# Altium footprint library ICs.PcbLib: 132 footprints (part 1 of 9)
Each footprint in its own frame and in the unit in brackets; x right, y up, seen from the top. Pads: shape width x height; smd on the part's side, far side on the other; paste and mask are expansions set on the pad; w line width, h text height; cw(c..) or ccw(c..) is an arc to the next point about the centre after c.
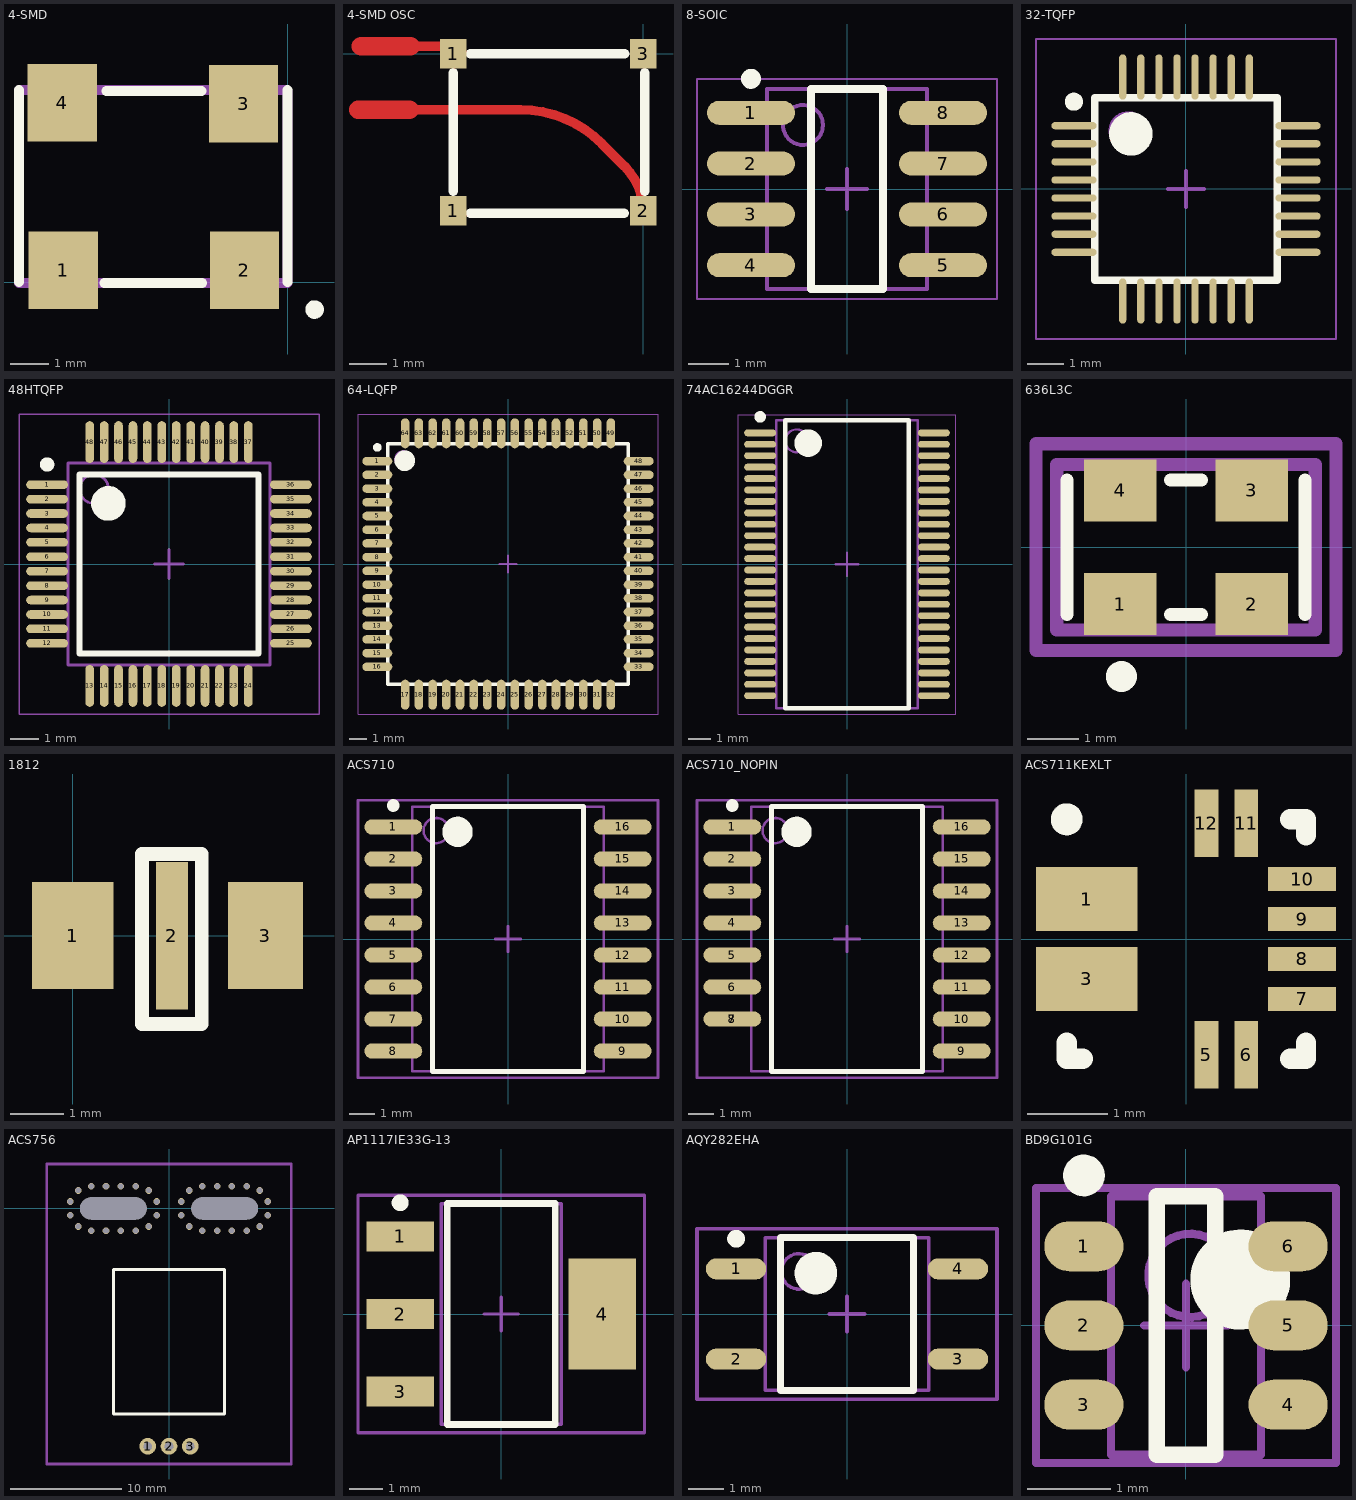
[diagram p0: the footprints below, top view; thin cyan lines are the x and y axes]

## 4-SMD [mm] "For 8MHz Oscillator"
height 1.8
pads (4):
  rect 1.8x2 smd: 1(-5.817,0.305) 2(-1.118,0.305) 3(-1.143,4.623) 4(-5.842,4.648)
Top Overlay:
  circle w0.254: c0.699,-0.711 r0.114
  lines w0.254: -6.96,0 -6.96,4.978 ; -4.75,-0.025 -2.21,-0.025 ; -4.699,4.953 -2.235,4.953 ; 0,0 0,4.978
Mechanical 15:
  lines w0.254: 0,-0.025 -6.96,-0.025 -6.96,4.978 -0.025,4.978 0,4.953 0,0

## 4-SMD OSC [mm] "For 20MHz OSC"
height 1.8
pads (4):
  rect 0.71x0.79 smd: 1(-5.08,-4.2) 1(-5.08,0) 2(0,-4.2) 3(0,0)
Top Layer:
  lines w0.254: -7.62,-1.499 -3.277,-1.499 cw(c-3.277,-4.565) -1.109,-2.397 -0.491,-3.014 cw(c-1.677,-4.2) 0,-4.2 ; -7.544,0.203 -5.08,0.203
  lines w0.5: -7.62,-1.499 -6.248,-1.499 ; -7.544,0.203 -6.223,0.203
Top Overlay:
  lines w0.254: -5.08,-3.683 -5.08,-0.508 ; -4.623,-4.267 -0.508,-4.267 ; -4.623,0 -0.483,0 ; 0.051,-3.683 0.051,-0.508
3D body: height 1.8, standoff 0, extent -5.08,-4.216 0,0.025

## 8-SOIC [mm] "Used for LMH6612"
height 1.75
pads (8):
  oval 2.2x0.6 smd: 1(-2.4,1.905) 2(-2.4,0.635) 3(-2.4,-0.635) 4(-2.4,-1.905) 5(2.4,-1.905) 6(2.4,-0.635) 7(2.4,0.635) 8(2.4,1.905)
Top Overlay:
  circle w0.25: c-2.4,2.755 r0.125
  lines w0.2: -0.9,-2.5 -0.9,2.5 0.9,2.5 0.9,-2.5 -0.9,-2.5
Mechanical 13:
  circle w0.1: c-1.1,1.6 r0.5
  lines w0.1: -2,-2.5 -2,2.5 2,2.5 2,-2.5 -2,-2.5
Mechanical 15:
  lines w0.05: -3.75,-2.75 -3.75,2.75 3.75,2.75 3.75,-2.75 -3.75,-2.75
  lines w0.1: -0.5,0 0.5,0 ; 0,-0.5 0,0.5
3D body: height 1.75, standoff 0.25, extent -2,-2.5 2,2.5

## 32-TQFP [mm]
height 0.15
pads (32):
  oval 1.25x0.2 smd: 1(-3.1,1.75) 2(-3.1,1.25) 3(-3.1,0.75) 4(-3.1,0.25) 5(-3.1,-0.25) 6(-3.1,-0.75) 7(-3.1,-1.25) 8(-3.1,-1.75) 17(3.1,-1.75) 18(3.1,-1.25) 19(3.1,-0.75) 20(3.1,-0.25) 21(3.1,0.25) 22(3.1,0.75) 23(3.1,1.25) 24(3.1,1.75)
  oval 0.2x1.25 smd: 9(-1.75,-3.1) 10(-1.25,-3.1) 11(-0.75,-3.1) 12(-0.25,-3.1) 13(0.25,-3.1) 14(0.75,-3.1) 15(1.25,-3.1) 16(1.75,-3.1) 25(1.75,3.1) 26(1.25,3.1) 27(0.75,3.1) 28(0.25,3.1) 29(-0.25,3.1) 30(-0.75,3.1) 31(-1.25,3.1) 32(-1.75,3.1)
Top Overlay:
  circle w0.6: c-1.525,1.525 r0.3
  circle w0.25: c-3.1,2.415 r0.125
  lines w0.2: -2.525,-2.525 2.525,-2.525 2.525,2.525 -2.525,2.525 -2.525,-2.525
Mechanical 13:
  circle w0.1: c-1.6,1.6 r0.5
  lines w0.1: -2.5,-2.5 2.5,-2.5 2.5,2.5 -2.5,2.5 -2.5,-2.5
Mechanical 15:
  lines w0.05: -4.15,-4.15 4.15,-4.15 4.15,4.15 -4.15,4.15 -4.15,-4.15
  lines w0.1: -0.5,0 0.5,0 ; 0,-0.5 0,0.5
3D body: height 0.15, standoff 0.05, extent -2.5,-2.5 2.5,2.5

## 48HTQFP [mm] "TSQFP, S-PQFP-G48, 48-Leads, Body 7.00x7.00mm, Pitch 0.50mm, IPC Medium Density"
height 1.2
pads (48):
  oval 1.45x0.3 smd: 1(-4.225,2.75) 2(-4.225,2.25) 3(-4.225,1.75) 4(-4.225,1.25) 5(-4.225,0.75) 6(-4.225,0.25) 7(-4.225,-0.25) 8(-4.225,-0.75) 9(-4.225,-1.25) 10(-4.225,-1.75) 11(-4.225,-2.25) 12(-4.225,-2.75) 25(4.225,-2.75) 26(4.225,-2.25) 27(4.225,-1.75) 28(4.225,-1.25) 29(4.225,-0.75) 30(4.225,-0.25) 31(4.225,0.25) 32(4.225,0.75) 33(4.225,1.25) 34(4.225,1.75) 35(4.225,2.25) 36(4.225,2.75)
  oval 0.3x1.45 smd: 13(-2.75,-4.225) 14(-2.25,-4.225) 15(-1.75,-4.225) 16(-1.25,-4.225) 17(-0.75,-4.225) 18(-0.25,-4.225) 19(0.25,-4.225) 20(0.75,-4.225) 21(1.25,-4.225) 22(1.75,-4.225) 23(2.25,-4.225) 24(2.75,-4.225) 37(2.75,4.225) 38(2.25,4.225) 39(1.75,4.225) 40(1.25,4.225) 41(0.75,4.225) 42(0.25,4.225) 43(-0.25,4.225) 44(-0.75,4.225) 45(-1.25,4.225) 46(-1.75,4.225) 47(-2.25,4.225) 48(-2.75,4.225)
Top Overlay:
  circle w0.6: c-2.1,2.1 r0.3
  circle w0.25: c-4.225,3.45 r0.125
  lines w0.2: -3.1,-3.1 3.1,-3.1 3.1,3.1 -3.1,3.1 -3.1,-3.1
Mechanical 13:
  circle w0.1: c-2.6,2.6 r0.5
  lines w0.1: -3.5,-3.5 3.5,-3.5 3.5,3.5 -3.5,3.5 -3.5,-3.5
Mechanical 15:
  lines w0.05: -5.2,-5.2 5.2,-5.2 5.2,5.2 -5.2,5.2 -5.2,-5.2
  lines w0.1: -0.5,0 0.5,0 ; 0,-0.5 0,0.5
3D body: height 1.2, standoff 0.25, extent -3.5,-3.5 3.5,3.5

## 64-LQFP [mm] "For IDT 64 pin FIFO"
height 0.15
pads (64):
  oval 1.75x0.5 smd: 1(-7.625,6) 2(-7.625,5.2) 3(-7.625,4.4) 4(-7.625,3.6) 5(-7.625,2.8) 6(-7.625,2) 7(-7.625,1.2) 8(-7.625,0.4) 9(-7.625,-0.4) 10(-7.625,-1.2) 11(-7.625,-2) 12(-7.625,-2.8) 13(-7.625,-3.6) 14(-7.625,-4.4) 15(-7.625,-5.2) 16(-7.625,-6) 33(7.625,-6) 34(7.625,-5.2) 35(7.625,-4.4) 36(7.625,-3.6) 37(7.625,-2.8) 38(7.625,-2) 39(7.625,-1.2) 40(7.625,-0.4) 41(7.625,0.4) 42(7.625,1.2) 43(7.625,2) 44(7.625,2.8) 45(7.625,3.6) 46(7.625,4.4) 47(7.625,5.2) 48(7.625,6)
  oval 0.5x1.75 smd: 17(-6,-7.625) 18(-5.2,-7.625) 19(-4.4,-7.625) 20(-3.6,-7.625) 21(-2.8,-7.625) 22(-2,-7.625) 23(-1.2,-7.625) 24(-0.4,-7.625) 25(0.4,-7.625) 26(1.2,-7.625) 27(2,-7.625) 28(2.8,-7.625) 29(3.6,-7.625) 30(4.4,-7.625) 31(5.2,-7.625) 32(6,-7.625) 49(6,7.625) 50(5.2,7.625) 51(4.4,7.625) 52(3.6,7.625) 53(2.8,7.625) 54(2,7.625) 55(1.2,7.625) 56(0.4,7.625) 57(-0.4,7.625) 58(-1.2,7.625) 59(-2,7.625) 60(-2.8,7.625) 61(-3.6,7.625) 62(-4.4,7.625) 63(-5.2,7.625) 64(-6,7.625)
Top Overlay:
  circle w0.6: c-6.025,6.025 r0.3
  circle w0.25: c-7.625,6.8 r0.125
  lines w0.2: -7.025,-7.025 7.025,-7.025 7.025,7.025 -7.025,7.025 -7.025,-7.025
Mechanical 13:
  circle w0.1: c-6.1,6.1 r0.5
  lines w0.1: -7,-7 7,-7 7,7 -7,7 -7,-7
Mechanical 15:
  lines w0.05: -8.75,-8.75 8.75,-8.75 8.75,8.75 -8.75,8.75 -8.75,-8.75
  lines w0.1: -0.5,0 0.5,0 ; 0,-0.5 0,0.5
3D body: height 0.15, standoff 0.05, extent -7,-7 7,7

## 74AC16244DGGR [mm] "TSSOP, 48-Leads, Body 12.50x6.10mm, Pitch 0.50mm, IPC Medium Density"
height 1.2
pads (48):
  oval 1.4x0.3 smd: 1(-3.8,5.75) 2(-3.8,5.25) 3(-3.8,4.75) 5(-3.8,3.75) 6(-3.8,3.25) 8(-3.8,2.25) 9(-3.8,1.75) 11(-3.8,0.75) 12(-3.8,0.25) 13(-3.8,-0.25) 14(-3.8,-0.75) 16(-3.8,-1.75) 17(-3.8,-2.25) 19(-3.8,-3.25) 20(-3.8,-3.75) 22(-3.8,-4.75) 23(-3.8,-5.25) 24(-3.8,-5.75) 25(3.8,-5.75) 26(3.8,-5.25) 27(3.8,-4.75) 29(3.8,-3.75) 30(3.8,-3.25) 32(3.8,-2.25) 33(3.8,-1.75) 35(3.8,-0.75) 36(3.8,-0.25) 37(3.8,0.25) 38(3.8,0.75) 40(3.8,1.75) 41(3.8,2.25) 43(3.8,3.25) 44(3.8,3.75) 46(3.8,4.75) 47(3.8,5.25) 48(3.8,5.75) GND(-3.8,-4.25) GND(-3.8,-1.25) GND(-3.8,1.25) GND(-3.8,4.25) GND(3.8,-4.25) GND(3.8,-1.25) GND(3.8,1.25) GND(3.8,4.25) VCC(-3.8,-2.75) VCC(-3.8,2.75) VCC(3.8,-2.75) VCC(3.8,2.75)
Top Overlay:
  circle w0.25: c-3.8,6.45 r0.125
  circle w0.6: c-1.7,5.3 r0.3
  lines w0.2: -2.7,-6.3 -2.7,6.3 2.7,6.3 2.7,-6.3 -2.7,-6.3
Mechanical 13:
  circle w0.1: c-2.2,5.4 r0.5
  lines w0.1: -3.1,-6.3 -3.1,6.3 3.1,6.3 3.1,-6.3 -3.1,-6.3
Mechanical 15:
  lines w0.05: -4.75,-6.55 -4.75,6.55 4.75,6.55 4.75,-6.55 -4.75,-6.55
  lines w0.1: -0.5,0 0.5,0 ; 0,-0.5 0,0.5
3D body: height 1.2, standoff 0.05, extent -3.1,-6.3 3.1,6.3

## 636L3C [mm]
height 1.4
pads (4):
  rect 1.4x1.2 smd: 1(-1.27,-1.1) 2(1.27,-1.1) 3(1.27,1.1) 4(-1.27,1.1)
Top Overlay:
  circle w0.3: c-1.25,-2.5 r0.15
  lines w0.254: -2.3,-1.3 -2.3,1.3 ; -0.3,-1.3 0.3,-1.3 ; -0.3,1.3 0.3,1.3 ; 2.3,-1.3 2.3,1.3
Mechanical 13:
  lines w0.254: -2.5,-1.6 -2.5,1.6 2.5,1.6 2.5,-1.6 -2.5,-1.6
Mechanical 15:
  lines w0.254: -2.9,-2 2.9,-2 2.9,2 -2.9,2 -2.9,-2
3D body: height 2, standoff 0, extent -2.5,-1.6 2.5,1.6

## 1812 [mm] "For EMI Filter"
height 2.9
pads (3):
  rect 1.524x2 smd: 1(0,0)
  rect 0.6x2.75 smd: 2(1.854,0)
  rect 1.4x2 smd: 3(3.6,0)
Top Overlay:
  lines w0.254: 1.295,-1.651 2.413,-1.651 2.413,1.524 1.295,1.524 1.295,-1.651
3D body: height 1.8, standoff 0, extent -0.635,-0.991 4.216,0.991

## ACS710 [mm] "SOIC, 16-Leads, Body 10.5x7.6mm (max), Pitch 1.27mm, IPC Medium Density"
height 2.65
pads (16):
  oval 2.3x0.6 smd: 1(-4.55,4.445) 2(-4.55,3.175) 3(-4.55,1.905) 4(-4.55,0.635) 5(-4.55,-0.635) 6(-4.55,-1.905) 7(-4.55,-3.175) 8(-4.55,-4.445) 9(4.55,-4.445) 10(4.55,-3.175) 11(4.55,-1.905) 12(4.55,-0.635) 13(4.55,0.635) 14(4.55,1.905) 15(4.55,3.175) 16(4.55,4.445)
Top Overlay:
  circle w0.6: c-2,4.25 r0.3
  circle w0.25: c-4.55,5.295 r0.125
  lines w0.2: -3,-5.25 3,-5.25 3,5.25 -3,5.25 -3,-5.25
Mechanical 13:
  circle w0.1: c-2.85,4.3 r0.5
  lines w0.1: -3.8,-5.25 3.8,-5.25 3.8,5.25 -3.8,5.25 -3.8,-5.25
Mechanical 15:
  lines w0.1: -0.5,0 0.5,0 ; 0,-0.5 0,0.5 ; -5.95,-5.5 5.95,-5.5 5.95,5.5 -5.95,5.5 -5.95,-5.5
3D body: height 2.65, standoff 0.1, extent -3.8,-5.25 3.8,5.25

## ACS710_NOPIN [mm] "Hacked footprint to make battery board look nice."
pads (16):
  oval 2.3x0.6 smd: 1(-4.55,4.445) 2(-4.55,3.175) 3(-4.55,1.905) 4(-4.55,0.635) 5(-4.55,-0.635) 6(-4.55,-1.905) 7(-4.55,-3.175) 8(-4.55,-3.175) 9(4.55,-4.445) 10(4.55,-3.175) 11(4.55,-1.905) 12(4.55,-0.635) 13(4.55,0.635) 14(4.55,1.905) 15(4.55,3.175) 16(4.55,4.445)
Top Overlay:
  circle w0.25: c-4.55,5.295 r0.125
  circle w0.6: c-2,4.25 r0.3
  lines w0.2: -3,-5.25 -3,5.25 3,5.25 3,-5.25 -3,-5.25
Mechanical 13:
  circle w0.1: c-2.85,4.3 r0.5
  lines w0.1: -3.8,-5.25 -3.8,5.25 3.8,5.25 3.8,-5.25 -3.8,-5.25
Mechanical 15:
  lines w0.1: -0.5,0 0.5,0 ; 0,-0.5 0,0.5 ; -5.95,-5.5 -5.95,5.5 5.95,5.5 5.95,-5.5 -5.95,-5.5
3D body: height 2.65, standoff 0.1, extent -3.8,-5.25 3.8,5.25

## ACS711KEXLT [mm]
height 0.75
pads (10):
  rect 1.27x0.8 smd: 1(-1.25,0.5) 3(-1.25,-0.5)
  rect 0.3x0.85 smd: 5(0.25,-1.45) 6(0.75,-1.45) 11(0.75,1.45) 12(0.25,1.45)
  rect 0.85x0.3 smd: 7(1.45,-0.75) 8(1.45,-0.25) 9(1.45,0.25) 10(1.45,0.75)
Top Overlay:
  circle w0.2: c-1.5,1.5 r0.1
  lines w0.254: -1.5,-1.3 -1.5,-1.5 -1.3,-1.5 ; 1.3,-1.5 1.5,-1.5 1.5,-1.3 ; 1.3,1.5 1.5,1.5 1.5,1.3
3D body: height 0.75, standoff 0.08, extent -1.5,-1.5 1.5,1.5

## ACS756 [mm] "Hall Effect-Based Linear Current Sensor"
height 7
pads (5):
  round 1.5 hole 0.8: 1(-1.91,-21.4) 2(0,-21.4) 3(1.91,-21.4)
  round 0 hole 2 slot 6 at 0 deg paste+0 mask+0: 4(5,0) 5(-5,0)
via 3,2 diameter 0.6 hole 0.5
via 7,2 diameter 0.6 hole 0.5
via 4.33,2 diameter 0.6 hole 0.5
via 5.66,2 diameter 0.6 hole 0.5
via 1.098,-0.618 diameter 0.6 hole 0.5
via 1.098,0.618 diameter 0.6 hole 0.5
via 1.824,1.618 diameter 0.6 hole 0.5
via 3,-2 diameter 0.6 hole 0.5
via 1.824,-1.618 diameter 0.6 hole 0.5
via 8.176,1.618 diameter 0.6 hole 0.5
via 8.902,0.618 diameter 0.6 hole 0.5
via 8.902,-0.618 diameter 0.6 hole 0.5
via 8.176,-1.618 diameter 0.6 hole 0.5
via 7,-2 diameter 0.6 hole 0.5
via 4.33,-2 diameter 0.6 hole 0.5
via 5.66,-2 diameter 0.6 hole 0.5
via -4.34,-2 diameter 0.6 hole 0.5
via -5.67,-2 diameter 0.6 hole 0.5
via -3,-2 diameter 0.6 hole 0.5
via -1.824,-1.618 diameter 0.6 hole 0.5
via -1.098,-0.618 diameter 0.6 hole 0.5
via -1.098,0.618 diameter 0.6 hole 0.5
via -1.824,1.618 diameter 0.6 hole 0.5
via -8.176,-1.618 diameter 0.6 hole 0.5
via -7,-2 diameter 0.6 hole 0.5
via -8.176,1.618 diameter 0.6 hole 0.5
via -8.902,0.618 diameter 0.6 hole 0.5
via -8.902,-0.618 diameter 0.6 hole 0.5
via -4.34,2 diameter 0.6 hole 0.5
via -5.67,2 diameter 0.6 hole 0.5
via -3,2 diameter 0.6 hole 0.5
via -7,2 diameter 0.6 hole 0.5
Top Overlay:
  lines w0.254: -5,-18.5 -5,-5.5 5,-5.5 5,-18.5 -5,-18.5
Top Solder:
  region: -7,-3.227 -7.254,-3.227 -7.756,-3.148 -8.239,-2.991 -8.692,-2.76 -9.102,-2.462 -9.462,-2.102 -9.76,-1.692 -9.991,-1.239 -10.148,-0.756 -10.227,-0.254 -10.227,0.254 -10.148,0.756 -9.991,1.239 -9.76,1.692 -9.462,2.102 -9.102,2.462 -8.692,2.76 -8.239,2.991 -7.756,3.148 -7.254,3.227 -7,3.227 6.9,3.227 6.906,3.227 6.919,3.226 6.932,3.224 6.944,3.22 6.95,3.217 6.956,3.22 6.968,3.224 6.981,3.226 6.994,3.227 7,3.227 7.212,3.227 7.631,3.172 8.04,3.063 8.43,2.901 8.797,2.689 9.133,2.432 9.432,2.133 9.689,1.797 9.901,1.43 10.063,1.04 10.172,0.631 10.227,0.212 10.227,0 10.227,-0.212 10.172,-0.631 10.063,-1.04 9.901,-1.43 9.689,-1.797 9.432,-2.133 9.133,-2.432 8.797,-2.689 8.43,-2.901 8.04,-3.063 7.631,-3.172 7.212,-3.227 7,-3.227
Bottom Solder:
  region: -7,-3.227 -7.254,-3.227 -7.756,-3.148 -8.239,-2.991 -8.692,-2.76 -9.102,-2.462 -9.462,-2.102 -9.76,-1.692 -9.991,-1.239 -10.148,-0.756 -10.227,-0.254 -10.227,0.254 -10.148,0.756 -9.991,1.239 -9.76,1.692 -9.462,2.102 -9.102,2.462 -8.692,2.76 -8.239,2.991 -7.756,3.148 -7.254,3.227 -7,3.227 6.9,3.227 6.906,3.227 6.919,3.226 6.932,3.224 6.944,3.22 6.95,3.217 6.956,3.22 6.968,3.224 6.981,3.226 6.994,3.227 7,3.227 7.212,3.227 7.631,3.172 8.04,3.063 8.43,2.901 8.797,2.689 9.133,2.432 9.432,2.133 9.689,1.797 9.901,1.43 10.063,1.04 10.172,0.631 10.227,0.212 10.227,0 10.227,-0.212 10.172,-0.631 10.063,-1.04 9.901,-1.43 9.689,-1.797 9.432,-2.133 9.133,-2.432 8.797,-2.689 8.43,-2.901 8.04,-3.063 7.631,-3.172 7.212,-3.227 7,-3.227
Mechanical 15:
  lines w0.254: -11,-23 11,-23 11,-0.5 11,4 -11,4 -11,-23
Multi-Layer:
  region: -0.513,-1.673 -0.615,-1.825 -0.856,-2.102 -1.129,-2.348 -1.43,-2.558 -1.754,-2.73 -2.096,-2.862 -2.452,-2.951 -2.817,-2.995 -3,-2.995 -7,-2.995 -7.236,-2.995 -7.703,-2.921 -8.152,-2.776 -8.572,-2.561 -8.954,-2.284 -9.288,-1.95 -9.566,-1.568 -9.78,-1.147 -9.926,-0.698 -10,-0.231 -10,0.241 -9.926,0.707 -9.78,1.156 -9.566,1.577 -9.288,1.959 -8.954,2.293 -8.572,2.57 -8.152,2.785 -7.703,2.931 -7.236,3.005 -7,3.005 -3,3.005 -2.817,3.005 -2.452,2.96 -2.096,2.871 -1.754,2.74 -1.43,2.567 -1.129,2.357 -0.856,2.111 -0.615,1.834 -0.513,1.682
  region: 0.513,-1.673 0.615,-1.825 0.856,-2.102 1.129,-2.348 1.43,-2.558 1.754,-2.73 2.096,-2.862 2.452,-2.951 2.817,-2.995 3,-2.995 7,-2.995 7.236,-2.995 7.703,-2.921 8.152,-2.776 8.572,-2.561 8.954,-2.284 9.288,-1.95 9.566,-1.568 9.78,-1.147 9.926,-0.698 10,-0.231 10,0.241 9.926,0.707 9.78,1.156 9.566,1.577 9.288,1.959 8.954,2.293 8.572,2.57 8.152,2.785 7.703,2.931 7.236,3.005 7,3.005 3,3.005 2.817,3.005 2.452,2.96 2.096,2.871 1.754,2.74 1.43,2.567 1.129,2.357 0.856,2.111 0.615,1.834 0.513,1.682
3D body: height 7, standoff 0, extent -5,-18.5 5,-5.5

## AP1117IE33G-13 [mm] "SOT223, 4-Leads, Body 6.6x7.1mm (max), Pitch 2.30mm, IPC Medium Density"
height 1.8
pads (4):
  rect 2x0.9 smd: 1(-3,2.3) 2(-3,0) 3(-3,-2.3)
  rect 2x3.3 smd: 4(3,0)
Top Overlay:
  circle w0.25: c-3,3.3 r0.125
  lines w0.2: -1.6,-3.275 -1.6,3.275 1.6,3.275 1.6,-3.275 -1.6,-3.275
Mechanical 13:
  lines w0.1: -1.775,-3.275 -1.775,3.275 1.775,3.275 1.775,-3.275 -1.775,-3.275
Mechanical 15:
  lines w0.1: -0.5,0 0.5,0 ; 0,-0.5 0,0.5 ; -4.25,-3.525 -4.25,3.525 4.25,3.525 4.25,-3.525 -4.25,-3.525
3D body: height 1.8, standoff 0.01, extent -1.775,-3.275 1.775,3.275

## AQY282EHA [mm] "SOP, 4-Leads, Body 4.3x4.6mm (max), Pitch 2.54mm, IPC Medium Density"
height 2.2
pads (4):
  oval 1.7x0.6 smd: 1(-3.125,1.27) 2(-3.125,-1.27) 3(3.125,-1.27) 4(3.125,1.27)
Top Overlay:
  circle w0.25: c-3.125,2.12 r0.125
  circle w0.6: c-0.875,1.15 r0.3
  lines w0.2: -1.875,-2.15 -1.875,2.15 1.875,2.15 1.875,-2.15 -1.875,-2.15
Mechanical 13:
  circle w0.1: c-1.35,1.2 r0.5
  lines w0.1: -2.3,-2.15 -2.3,2.15 2.3,2.15 2.3,-2.15 -2.3,-2.15
Mechanical 15:
  lines w0.1: -0.5,0 0.5,0 ; 0,-0.5 0,0.5 ; -4.225,-2.4 -4.225,2.4 4.225,2.4 4.225,-2.4 -4.225,-2.4
3D body: height 2.2, standoff 0.1, extent -2.3,-2.15 2.3,2.15

## BD9G101G [mm] "Simple Step-down Switching Regulators with Built-in Power MOSFET"
height 1.25
pads (6):
  oval 0.95x0.6 smd: 1(-1.225,0.95) 2(-1.225,0) 3(-1.225,-0.95) 4(1.225,-0.95) 5(1.225,0) 6(1.225,0.95)
Top Overlay:
  circle w0.25: c-1.225,1.8 r0.125
  circle w0.6: c0.65,0.55 r0.3
  lines w0.2: -0.35,-1.55 -0.35,1.55 0.35,1.55 0.35,-1.55 -0.35,-1.55
Mechanical 13:
  circle w0.1: c0.05,0.6 r0.5
  lines w0.1: -0.9,-1.55 -0.9,1.55 0.9,1.55 0.9,-1.55 -0.9,-1.55
Mechanical 15:
  lines w0.1: -0.5,0 0.5,0 ; 0,-0.5 0,0.5 ; -1.8,-1.65 -1.8,1.65 1.8,1.65 1.8,-1.65 -1.8,-1.65
3D body: height 1.25, standoff 0, extent -0.9,-1.55 0.9,1.55